# Altium integrated library WE-UOST_rev15a.intlib: 8 symbols
Pins are listed as number, name and electrical type; pins without a type are passive.

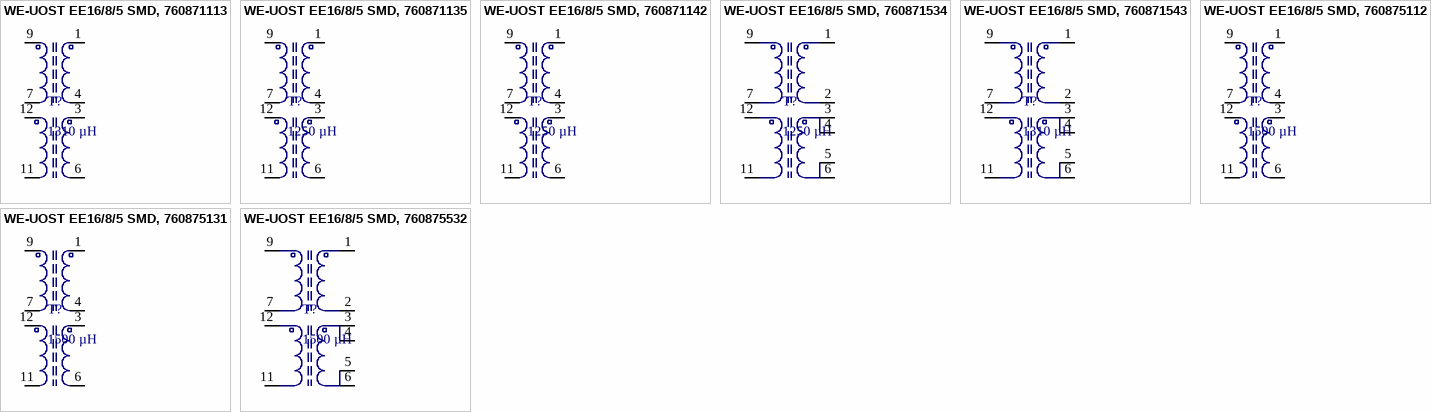
[diagram p0: symbols WE-UOST EE16/8/5 SMD, 760871113 to WE-UOST EE16/8/5 SMD, 760875532]

## WE-UOST EE16/8/5 SMD, 760871113
designator T?, comment 1310 µH
SMD Universal Offline Standard Transformers WE-UOST, L=1310 µH; PartNo: 760871113; Manufacturer: Würth Elektronik eiSos GmbH; Turns Ratio: 140 : 6 : 6 : 16; Output votage 1 & 2: 5V; Output Current: 1.25A; Inductance: 1310 µH; ComponentLink1Description: Manufacturer; ComponentLink1URL: http://www.we-online.de; Created by: Christin Zierenner; Created Date: Jan 2013; ComponentLink2Description: Datasheet; ComponentLink2URL: http://katalog.we-online.de/pbs/datasheet/760871113.pdf
footprint WE-UOST , EE16/8/5 , SMD (SMD Transformer, 12-Leads, Body 25.81x 16.6 mm)
pins: 1, 3, 4, 6, 7, 9, 11, 12

## WE-UOST EE16/8/5 SMD, 760871135
designator T?, comment 1250 µH
SMD Universal Offline Standard Transformers WE-UOST, L=1250 µH; PartNo: 760871135; Manufacturer: Würth Elektronik eiSos GmbH; Turns Ratio: 136 : 13 : 13 : 15; Output votage 1 & 2: 12V; Output Current: 0.55A; Inductance: 1250 µH; ComponentLink1Description: Manufacturer; ComponentLink1URL: http://www.we-online.de; Created by: Christin Zierenner; Created Date: Jan 2013; ComponentLink2Description: Datasheet; ComponentLink2URL: http://katalog.we-online.de/pbs/datasheet/760871135.pdf
footprint WE-UOST , EE16/8/5 , SMD (SMD Transformer, 12-Leads, Body 25.81x 16.6 mm)
pins: 1, 3, 4, 6, 7, 9, 11, 12

## WE-UOST EE16/8/5 SMD, 760871142
designator T?, comment 1250 µH
SMD Universal Offline Standard Transformers WE-UOST, L=1250 µH; PartNo: 760871142; Manufacturer: Würth Elektronik eiSos GmbH; Turns Ratio: 140 : 27 : 27 : 16; Output votage 1 & 2: 24V; Output Current: 0.28A; Inductance: 1250 µH; ComponentLink1Description: Manufacturer; ComponentLink1URL: http://www.we-online.de; Created by: Christin Zierenner; Created Date: Jan 2013; ComponentLink2Description: Datasheet; ComponentLink2URL: http://katalog.we-online.de/pbs/datasheet/760871142.pdf
footprint WE-UOST , EE16/8/5 , SMD (SMD Transformer, 12-Leads, Body 25.81x 16.6 mm)
pins: 1, 3, 4, 6, 7, 9, 11, 12

## WE-UOST EE16/8/5 SMD, 760871534
designator T?, comment 1250 µH
SMD Universal Offline Standard Transformers WE-UOST, L=1250 µH; PartNo: 760871534; Manufacturer: Würth Elektronik eiSos GmbH; Turns Ratio: 140 : 22 : 6 : 16; Output votage 1: 12V; Output Current 1: 0.55A; Output votage 2: 5V; Output Current 2: 1.25A; Inductance: 1250 µH; ComponentLink1Description: Manufacturer; ComponentLink1URL: http://www.we-online.de; Created by: Christin Zierenner; Created Date: Jan 2013; ComponentLink2Description: Datasheet; ComponentLink2URL: http://katalog.we-online.de/pbs/datasheet/760871534.pdf
footprint WE-UOST , EE16/8/5 , SMD (SMD Transformer, 12-Leads, Body 25.81x 16.6 mm)
pins: 1, 2, 3, 4, 5, 6, 7, 9, 11, 12

## WE-UOST EE16/8/5 SMD, 760871543
designator T?, comment 1310 µH
SMD Universal Offline Standard Transformers WE-UOST, L=1310 µH; PartNo: 760871543; Manufacturer: Würth Elektronik eiSos GmbH; Turns Ratio: 140 : 22 : 6 : 16; Output votage 1: 24V; Output Current 1: 0.30A; Output votage 2: 5V; Output Current 2: 1.15A; Inductance: 1310 µH; ComponentLink1Description: Manufacturer; ComponentLink1URL: http://www.we-online.de; Created by: Christin Zierenner; Created Date: Jan 2013; ComponentLink2Description: Datasheet; ComponentLink2URL: http://katalog.we-online.de/pbs/datasheet/760871543.pdf
footprint WE-UOST , EE16/8/5 , SMD (SMD Transformer, 12-Leads, Body 25.81x 16.6 mm)
pins: 1, 2, 3, 4, 5, 6, 7, 9, 11, 12

## WE-UOST EE16/8/5 SMD, 760875112
designator T?, comment 1500 µH
SMD Universal Offline Standard Transformers WE-UOST, L=1500 µH; PartNo: 760875112; Manufacturer: Würth Elektronik eiSos GmbH; Turns Ratio: 160 : 7 : 7 : 18; Output votage 1 & 2: 5V; Output Current: 1.50A; Inductance: 1500 µH; ComponentLink1Description: Manufacturer; ComponentLink1URL: http://www.we-online.de; Created by: Christin Zierenner; Created Date: Jan 2013; ComponentLink2Description: Datasheet; ComponentLink2URL: http://katalog.we-online.de/pbs/datasheet/760875112.pdf
footprint WE-UOST , EE16/8/5 , SMD (SMD Transformer, 12-Leads, Body 25.81x 16.6 mm)
pins: 1, 3, 4, 6, 7, 9, 11, 12

## WE-UOST EE16/8/5 SMD, 760875131
designator T?, comment 1500 µH
SMD Universal Offline Standard Transformers WE-UOST, L=1500 µH; PartNo: 760875131; Manufacturer: Würth Elektronik eiSos GmbH; Turns Ratio: 160 : 14 : 14 : 16; Output votage 1 & 2: 12V; Output Current: 0.65A; Inductance: 1500 µH; ComponentLink1Description: Manufacturer; ComponentLink1URL: http://www.we-online.de; Created by: Christin Zierenner; Created Date: Jan 2013; ComponentLink2Description: Datasheet; ComponentLink2URL: http://katalog.we-online.de/pbs/datasheet/760875131.pdf
footprint WE-UOST , EE16/8/5 , SMD (SMD Transformer, 12-Leads, Body 25.81x 16.6 mm)
pins: 1, 3, 4, 6, 7, 9, 11, 12

## WE-UOST EE16/8/5 SMD, 760875532
designator T?, comment 1500 µH
SMD Universal Offline Standard Transformers WE-UOST, L=1500 µH; PartNo: 760875532; Manufacturer: Würth Elektronik eiSos GmbH; Turns Ratio: 160 : 10 : 7 : 16; Output votage 1: 12V; Output Current 1: 0.70A; Output votage 2: 5V; Output Current 2: 1.36A; Inductance: 1500 µH; ComponentLink1Description: Manufacturer; ComponentLink1URL: http://www.we-online.de; Created by: Christin Zierenner; Created Date: Jan 2013; ComponentLink2Description: Datasheet; ComponentLink2URL: http://katalog.we-online.de/pbs/datasheet/760875532.pdf
footprint WE-UOST , EE16/8/5 , SMD (SMD Transformer, 12-Leads, Body 25.81x 16.6 mm)
pins: 1, 2, 3, 4, 5, 6, 7, 9, 11, 12